# Altium footprint library Connector_TE-Connectivity.PcbLib: 65 footprints (part 1 of 5)
Each footprint in its own frame and in the unit in brackets; x right, y up, seen from the top. Pads: shape width x height; smd on the part's side, far side on the other; paste and mask are expansions set on the pad; w line width, h text height; cw(c..) or ccw(c..) is an arc to the next point about the centre after c.
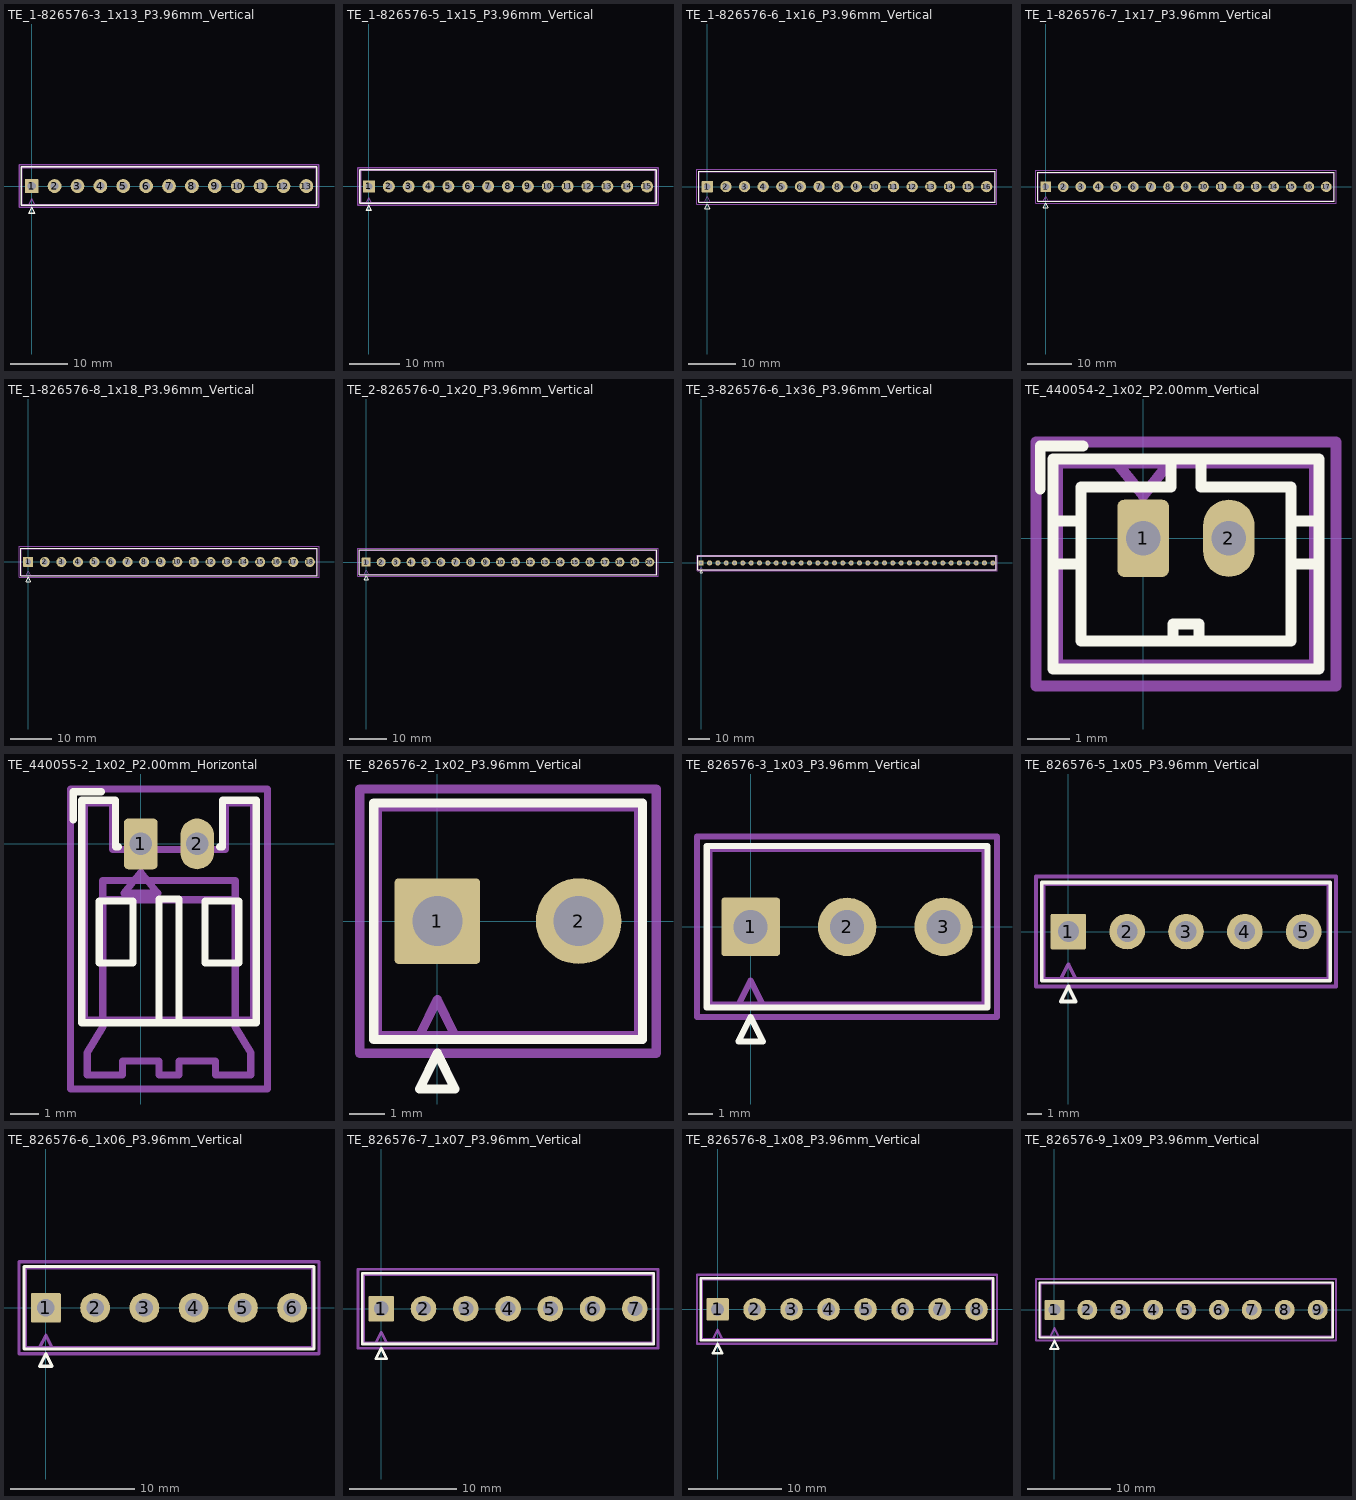
[diagram p0: the footprints below, top view; thin cyan lines are the x and y axes]

## TE_1-826576-3_1x13_P3.96mm_Vertical [mm]
pads (13):
  rrect10% 2.4x2.4 hole 1.4: 1(0,0)
  round 2.4 hole 1.4: 2(3.96,0) 3(7.92,0) 4(11.88,0) 5(15.84,0) 6(19.8,0) 7(23.76,0) 8(27.72,0) 9(31.68,0) 10(35.64,0) 11(39.6,0) 12(43.56,0) 13(47.52,0)
F.SilkS:
  lines w0.254: -1.8,-3.31 23.76,-3.31 49.32,-3.31 49.32,3.31 23.76,3.31 -1.8,3.31 -1.8,-3.31 ; -0.5,-4.7 0.5,-4.7 0,-3.7 -0.5,-4.7
Top Component Center:
  lines w0.127: -0.127,0 0.127,0 ; 0,-0.127 0,0.127
Top Assembly:
  lines w0.254: -0.5,-3.2 0,-2.2 0.5,-3.2 ; -1.69,-3.2 23.76,-3.2 49.21,-3.2 49.21,3.2 23.76,3.2 -1.69,3.2 -1.69,-3.2
  text "'.Designator'" at 19.713,1.66 h1
Top Courtyard:
  lines w0.254: -2.2,-3.7 49.71,-3.7 49.71,3.7 -2.2,3.7 -2.2,-3.7
Top Designator:
  text ".Designator" at 16.137,-1.008 h1.52

## TE_1-826576-5_1x15_P3.96mm_Vertical [mm]
pads (15):
  rrect10% 2.4x2.4 hole 1.4: 1(0,0)
  round 2.4 hole 1.4: 2(3.96,0) 3(7.92,0) 4(11.88,0) 5(15.84,0) 6(19.8,0) 7(23.76,0) 8(27.72,0) 9(31.68,0) 10(35.64,0) 11(39.6,0) 12(43.56,0) 13(47.52,0) 14(51.48,0) 15(55.44,0)
F.SilkS:
  lines w0.254: -1.79,-3.31 27.72,-3.31 57.23,-3.31 57.23,3.31 27.72,3.31 -1.79,3.31 -1.79,-3.31 ; -0.5,-4.7 0.5,-4.7 0,-3.7 -0.5,-4.7
Top Assembly:
  lines w0.254: -0.5,-3.2 0,-2.2 0.5,-3.2 ; -1.68,-3.2 27.72,-3.2 57.12,-3.2 57.12,3.2 27.72,3.2 -1.68,3.2 -1.68,-3.2
  text "'.Designator'" at 23.673,1.66 h1
Top Courtyard:
  lines w0.254: -2.18,-3.7 57.62,-3.7 57.62,3.7 -2.18,3.7 -2.18,-3.7
Top Designator:
  text ".Designator" at 20.102,-1.008 h1.52

## TE_1-826576-6_1x16_P3.96mm_Vertical [mm]
pads (16):
  rrect10% 2.4x2.4 hole 1.4: 1(0,0)
  round 2.4 hole 1.4: 2(3.96,0) 3(7.92,0) 4(11.88,0) 5(15.84,0) 6(19.8,0) 7(23.76,0) 8(27.72,0) 9(31.68,0) 10(35.64,0) 11(39.6,0) 12(43.56,0) 13(47.52,0) 14(51.48,0) 15(55.44,0) 16(59.4,0)
F.SilkS:
  lines w0.254: -1.81,-3.31 29.7,-3.31 61.21,-3.31 61.21,3.31 29.7,3.31 -1.81,3.31 -1.81,-3.31 ; -0.5,-4.7 0.5,-4.7 0,-3.7 -0.5,-4.7
Top Assembly:
  lines w0.254: -0.5,-3.2 0,-2.2 0.5,-3.2 ; -1.7,-3.2 29.7,-3.2 61.1,-3.2 61.1,3.2 29.7,3.2 -1.7,3.2 -1.7,-3.2
  text "'.Designator'" at 25.653,1.66 h1
Top Courtyard:
  lines w0.254: -2.2,-3.7 61.6,-3.7 61.6,3.7 -2.2,3.7 -2.2,-3.7
Top Designator:
  text ".Designator" at 22.082,-1.008 h1.52

## TE_1-826576-7_1x17_P3.96mm_Vertical [mm]
pads (17):
  rrect10% 2.4x2.4 hole 1.4: 1(0,0)
  round 2.4 hole 1.4: 2(3.96,0) 3(7.92,0) 4(11.88,0) 5(15.84,0) 6(19.8,0) 7(23.76,0) 8(27.72,0) 9(31.68,0) 10(35.64,0) 11(39.6,0) 12(43.56,0) 13(47.52,0) 14(51.48,0) 15(55.44,0) 16(59.4,0) 17(63.36,0)
F.SilkS:
  lines w0.254: -1.78,-3.31 31.68,-3.31 65.14,-3.31 65.14,3.31 31.68,3.31 -1.78,3.31 -1.78,-3.31 ; -0.5,-4.7 0.5,-4.7 0,-3.7 -0.5,-4.7
Top Assembly:
  lines w0.254: -0.5,-3.2 0,-2.2 0.5,-3.2 ; -1.67,-3.2 31.68,-3.2 65.03,-3.2 65.03,3.2 31.68,3.2 -1.67,3.2 -1.67,-3.2
  text "'.Designator'" at 27.633,1.66 h1
Top Courtyard:
  lines w0.254: -2.18,-3.7 65.53,-3.7 65.53,3.7 -2.18,3.7 -2.18,-3.7
Top Designator:
  text ".Designator" at 24.057,-1.008 h1.52

## TE_1-826576-8_1x18_P3.96mm_Vertical [mm]
pads (18):
  rrect10% 2.4x2.4 hole 1.4: 1(0,0)
  round 2.4 hole 1.4: 2(3.96,0) 3(7.92,0) 4(11.88,0) 5(15.84,0) 6(19.8,0) 7(23.76,0) 8(27.72,0) 9(31.68,0) 10(35.64,0) 11(39.6,0) 12(43.56,0) 13(47.52,0) 14(51.48,0) 15(55.44,0) 16(59.4,0) 17(63.36,0) 18(67.32,0)
F.SilkS:
  lines w0.254: -1.8,-3.31 33.66,-3.31 69.12,-3.31 69.12,3.31 33.66,3.31 -1.8,3.31 -1.8,-3.31 ; -0.5,-4.7 0.5,-4.7 0,-3.7 -0.5,-4.7
Top Assembly:
  lines w0.254: -0.5,-3.2 0,-2.2 0.5,-3.2 ; -1.69,-3.2 33.66,-3.2 69.01,-3.2 69.01,3.2 33.66,3.2 -1.69,3.2 -1.69,-3.2
  text "'.Designator'" at 29.613,1.66 h1
Top Courtyard:
  lines w0.254: -2.2,-3.7 69.51,-3.7 69.51,3.7 -2.2,3.7 -2.2,-3.7
Top Designator:
  text ".Designator" at 26.037,-1.008 h1.52

## TE_2-826576-0_1x20_P3.96mm_Vertical [mm]
pads (20):
  rrect10% 2.4x2.4 hole 1.4: 1(0,0)
  round 2.4 hole 1.4: 2(3.96,0) 3(7.92,0) 4(11.88,0) 5(15.84,0) 6(19.8,0) 7(23.76,0) 8(27.72,0) 9(31.68,0) 10(35.64,0) 11(39.6,0) 12(43.56,0) 13(47.52,0) 14(51.48,0) 15(55.44,0) 16(59.4,0) 17(63.36,0) 18(67.32,0) 19(71.28,0) 20(75.24,0)
F.SilkS:
  lines w0.254: -1.79,-3.31 37.62,-3.31 77.03,-3.31 77.03,3.31 37.62,3.31 -1.79,3.31 -1.79,-3.31 ; -0.5,-4.7 0.5,-4.7 0,-3.7 -0.5,-4.7
Top Assembly:
  lines w0.254: -0.5,-3.2 0,-2.2 0.5,-3.2 ; -1.68,-3.2 37.62,-3.2 76.92,-3.2 76.92,3.2 37.62,3.2 -1.68,3.2 -1.68,-3.2
  text "'.Designator'" at 33.573,1.66 h1
Top Courtyard:
  lines w0.254: -2.18,-3.7 77.42,-3.7 77.42,3.7 -2.18,3.7 -2.18,-3.7
Top Designator:
  text ".Designator" at 30.002,-1.008 h1.52

## TE_3-826576-6_1x36_P3.96mm_Vertical [mm]
pads (36):
  rrect10% 2.4x2.4 hole 1.4: 1(0,0)
  round 2.4 hole 1.4: 2(3.96,0) 3(7.92,0) 4(11.88,0) 5(15.84,0) 6(19.8,0) 7(23.76,0) 8(27.72,0) 9(31.68,0) 10(35.64,0) 11(39.6,0) 12(43.56,0) 13(47.52,0) 14(51.48,0) 15(55.44,0) 16(59.4,0) 17(63.36,0) 18(67.32,0) 19(71.28,0) 20(75.24,0) 21(79.2,0) 22(83.16,0) 23(87.12,0) 24(91.08,0) 25(95.04,0) 26(99,0) 27(102.96,0) 28(106.92,0) 29(110.88,0) 30(114.84,0) 31(118.8,0) 32(122.76,0) 33(126.72,0) 34(130.68,0) 35(134.64,0) 36(138.6,0)
F.SilkS:
  lines w0.254: -1.61,-3.31 69.3,-3.31 140.21,-3.31 140.21,3.31 69.3,3.31 -1.61,3.31 -1.61,-3.31 ; -0.5,-4.7 0.5,-4.7 0,-3.7 -0.5,-4.7
Top Assembly:
  lines w0.254: -0.5,-3.2 0,-2.2 0.5,-3.2 ; -1.5,-3.2 69.3,-3.2 140.1,-3.2 140.1,3.2 69.3,3.2 -1.5,3.2 -1.5,-3.2
  text "'.Designator'" at 65.253,1.66 h1
Top Courtyard:
  lines w0.254: -2,-3.7 140.6,-3.7 140.6,3.7 -2,3.7 -2,-3.7
Top Designator:
  text ".Designator" at 61.682,-1.008 h1.52

## TE_440054-2_1x02_P2.00mm_Vertical [mm]
pads (2):
  rrect25% 1.2x1.8 hole 0.8: 1(0,0)
  rrect100% 1.2x1.8 hole 0.8: 2(2,0)
F.SilkS:
  lines w0.254: -2.4,1.15 -2.4,2.15 -1.4,2.15 ; -2.1,-0.6 -1.45,-0.6 ; -2.1,0.4 -1.45,0.4 ; 0.65,1.85 0.65,1.2 -1.45,1.2 -1.45,-2.4 3.45,-2.4 3.45,1.2 1.35,1.2 1.35,1.85 ; 0.7,-2.4 0.7,-2 1.3,-2 1.3,-2.4 ; 3.45,-0.6 4.1,-0.6 ; 3.45,0.4 4.1,0.4 ; -2.1,-3.05 4.1,-3.05 4.1,1.85 -2.1,1.85 -2.1,-3.05
Top Assembly:
  lines w0.254: -0.6,1.75 0,1 0.6,1.75 ; -2,-2.95 4,-2.95 4,1.75 -2,1.75 -2,-2.95
  text "'.Designator'" at -3.047,-2.04 h1
Top Courtyard:
  lines w0.254: -2.5,-3.45 4.5,-3.45 4.5,2.25 -2.5,2.25 -2.5,-3.45
Top Designator:
  text ".Designator" at -6.768,-1.108 h1.52

## TE_440055-2_1x02_P2.00mm_Horizontal [mm]
pads (2):
  rrect25% 1.2x1.8 hole 0.8: 1(0,0)
  rrect100% 1.2x1.8 hole 0.8: 2(2,0)
F.SilkS:
  lines w0.254: -2.4,0.85 -2.4,1.85 -1.4,1.85 ; -0.8,-0.1 -0.9,-0.1 -0.9,1.55 -2.1,1.55 -2.1,-6.35 4.1,-6.35 4.1,1.55 2.9,1.55 2.9,-0.1 2.8,-0.1 ; 0.65,-6.35 0.65,-1.95 1.35,-1.95 1.35,-6.35 ; -1.475,-4.23 -0.275,-4.23 -0.275,-2.03 -1.475,-2.03 -1.475,-4.23 ; 2.275,-4.23 3.475,-4.23 3.475,-2.03 2.275,-2.03 2.275,-4.23
Top Assembly:
  lines w0.254: -2,-6.25 4,-6.25 4,1.45 3,1.45 3,-0.2 -1,-0.2 -1,1.45 -2,1.45 -2,-6.25 ; -0.6,-1.75 0.6,-1.75 0,-1 -0.6,-1.75
  text "'.Designator'" at -3.047,-3.84 h1
Top Courtyard:
  lines w0.254: -2.5,-8.7 4.5,-8.7 4.5,1.95 -2.5,1.95 -2.5,-8.7
Top Designator:
  text ".Designator" at -6.768,-3.883 h1.52
Dwgs.User:
  lines w0.254: -1.35,-1.98 3.35,-1.98 ; -1.9,-8.2 -0.65,-8.2 -0.65,-7.7 0.65,-7.7 0.65,-8.2 1.35,-8.2 1.35,-7.7 2.65,-7.7 2.65,-8.2 3.9,-8.2 3.9,-7.4 3.35,-6.5 3.35,-1.3 -1.35,-1.3 -1.35,-6.5 -1.9,-7.4 -1.9,-8.2

## TE_826576-2_1x02_P3.96mm_Vertical [mm]
pads (2):
  rrect10% 2.4x2.4 hole 1.4: 1(0,0)
  round 2.4 hole 1.4: 2(3.96,0)
F.SilkS:
  lines w0.254: -1.78,-3.31 1.98,-3.31 5.74,-3.31 5.74,3.31 1.98,3.31 -1.78,3.31 -1.78,-3.31 ; -0.5,-4.7 0.5,-4.7 0,-3.7 -0.5,-4.7
Top Assembly:
  lines w0.254: -0.5,-3.2 0,-2.2 0.5,-3.2 ; -1.67,-3.2 1.98,-3.2 5.63,-3.2 5.63,3.2 1.98,3.2 -1.67,3.2 -1.67,-3.2
  text "'.Designator'" at -2.067,1.66 h1
Top Courtyard:
  lines w0.254: -2.17,-3.7 6.13,-3.7 6.13,3.7 -2.17,3.7 -2.17,-3.7
Top Designator:
  text ".Designator" at -5.638,-1.008 h1.52

## TE_826576-3_1x03_P3.96mm_Vertical [mm]
pads (3):
  rrect10% 2.4x2.4 hole 1.4: 1(0,0)
  round 2.4 hole 1.4: 2(3.96,0) 3(7.92,0)
F.SilkS:
  lines w0.254: -1.8,-3.31 3.96,-3.31 9.72,-3.31 9.72,3.31 3.96,3.31 -1.8,3.31 -1.8,-3.31 ; -0.5,-4.7 0.5,-4.7 0,-3.7 -0.5,-4.7
Top Assembly:
  lines w0.254: -0.5,-3.2 0,-2.2 0.5,-3.2 ; -1.69,-3.2 3.96,-3.2 9.61,-3.2 9.61,3.2 3.96,3.2 -1.69,3.2 -1.69,-3.2
  text "'.Designator'" at -0.087,1.66 h1
Top Courtyard:
  lines w0.254: -2.2,-3.7 10.11,-3.7 10.11,3.7 -2.2,3.7 -2.2,-3.7
Top Designator:
  text ".Designator" at -3.663,-1.008 h1.52

## TE_826576-5_1x05_P3.96mm_Vertical [mm]
pads (5):
  rrect10% 2.4x2.4 hole 1.4: 1(0,0)
  round 2.4 hole 1.4: 2(3.96,0) 3(7.92,0) 4(11.88,0) 5(15.84,0)
F.SilkS:
  lines w0.254: -1.79,-3.31 7.92,-3.31 17.63,-3.31 17.63,3.31 7.92,3.31 -1.79,3.31 -1.79,-3.31 ; -0.5,-4.7 0.5,-4.7 0,-3.7 -0.5,-4.7
Top Assembly:
  lines w0.254: -0.5,-3.2 0,-2.2 0.5,-3.2 ; -1.68,-3.2 7.92,-3.2 17.52,-3.2 17.52,3.2 7.92,3.2 -1.68,3.2 -1.68,-3.2
  text "'.Designator'" at 3.873,1.66 h1
Top Courtyard:
  lines w0.254: -2.18,-3.7 18.02,-3.7 18.02,3.7 -2.18,3.7 -2.18,-3.7
Top Designator:
  text ".Designator" at 0.302,-1.008 h1.52

## TE_826576-6_1x06_P3.96mm_Vertical [mm]
pads (6):
  rrect10% 2.4x2.4 hole 1.4: 1(0,0)
  round 2.4 hole 1.4: 2(3.96,0) 3(7.92,0) 4(11.88,0) 5(15.84,0) 6(19.8,0)
F.SilkS:
  lines w0.254: -1.76,-3.31 9.9,-3.31 21.56,-3.31 21.56,3.31 9.9,3.31 -1.76,3.31 -1.76,-3.31 ; -0.5,-4.7 0.5,-4.7 0,-3.7 -0.5,-4.7
Top Assembly:
  lines w0.254: -0.5,-3.2 0,-2.2 0.5,-3.2 ; -1.65,-3.2 9.9,-3.2 21.45,-3.2 21.45,3.2 9.9,3.2 -1.65,3.2 -1.65,-3.2
  text "'.Designator'" at 5.853,1.66 h1
Top Courtyard:
  lines w0.254: -2.16,-3.7 21.96,-3.7 21.96,3.7 -2.16,3.7 -2.16,-3.7
Top Designator:
  text ".Designator" at 2.282,-1.008 h1.52

## TE_826576-7_1x07_P3.96mm_Vertical [mm]
pads (7):
  rrect10% 2.4x2.4 hole 1.4: 1(0,0)
  round 2.4 hole 1.4: 2(3.96,0) 3(7.92,0) 4(11.88,0) 5(15.84,0) 6(19.8,0) 7(23.76,0)
F.SilkS:
  lines w0.254: -1.78,-3.31 11.88,-3.31 25.54,-3.31 25.54,3.31 11.88,3.31 -1.78,3.31 -1.78,-3.31 ; -0.5,-4.7 0.5,-4.7 0,-3.7 -0.5,-4.7
Top Assembly:
  lines w0.254: -0.5,-3.2 0,-2.2 0.5,-3.2 ; -1.67,-3.2 11.88,-3.2 25.43,-3.2 25.43,3.2 11.88,3.2 -1.67,3.2 -1.67,-3.2
  text "'.Designator'" at 7.833,1.66 h1
Top Courtyard:
  lines w0.254: -2.18,-3.7 25.93,-3.7 25.93,3.7 -2.18,3.7 -2.18,-3.7
Top Designator:
  text ".Designator" at 4.257,-1.008 h1.52

## TE_826576-8_1x08_P3.96mm_Vertical [mm]
pads (8):
  rrect10% 2.4x2.4 hole 1.4: 1(0,0)
  round 2.4 hole 1.4: 2(3.96,0) 3(7.92,0) 4(11.88,0) 5(15.84,0) 6(19.8,0) 7(23.76,0) 8(27.72,0)
F.SilkS:
  lines w0.254: -1.8,-3.31 13.86,-3.31 29.52,-3.31 29.52,3.31 13.86,3.31 -1.8,3.31 -1.8,-3.31 ; -0.5,-4.7 0.5,-4.7 0,-3.7 -0.5,-4.7
Top Assembly:
  lines w0.254: -0.5,-3.2 0,-2.2 0.5,-3.2 ; -1.69,-3.2 13.86,-3.2 29.41,-3.2 29.41,3.2 13.86,3.2 -1.69,3.2 -1.69,-3.2
  text "'.Designator'" at 9.813,1.66 h1
Top Courtyard:
  lines w0.254: -2.2,-3.7 29.91,-3.7 29.91,3.7 -2.2,3.7 -2.2,-3.7
Top Designator:
  text ".Designator" at 6.237,-1.008 h1.52

## TE_826576-9_1x09_P3.96mm_Vertical [mm]
pads (9):
  rrect10% 2.4x2.4 hole 1.4: 1(0,0)
  round 2.4 hole 1.4: 2(3.96,0) 3(7.92,0) 4(11.88,0) 5(15.84,0) 6(19.8,0) 7(23.76,0) 8(27.72,0) 9(31.68,0)
F.SilkS:
  lines w0.254: -1.82,-3.31 15.84,-3.31 33.5,-3.31 33.5,3.31 15.84,3.31 -1.82,3.31 -1.82,-3.31 ; -0.5,-4.7 0.5,-4.7 0,-3.7 -0.5,-4.7
Top Assembly:
  lines w0.254: -0.5,-3.2 0,-2.2 0.5,-3.2 ; -1.71,-3.2 15.84,-3.2 33.39,-3.2 33.39,3.2 15.84,3.2 -1.71,3.2 -1.71,-3.2
  text "'.Designator'" at 11.793,1.66 h1
Top Courtyard:
  lines w0.254: -2.22,-3.7 33.89,-3.7 33.89,3.7 -2.22,3.7 -2.22,-3.7
Top Designator:
  text ".Designator" at 8.217,-1.008 h1.52